# Altium footprint library QFN50P300X300X80-17N(qfn16).PcbLib: 1 footprints
Each footprint in its own frame and in the unit in brackets; x right, y up, seen from the top. Pads: shape width x height; smd on the part's side, far side on the other; paste and mask are expansions set on the pad; w line width, h text height; cw(c..) or ccw(c..) is an arc to the next point about the centre after c.
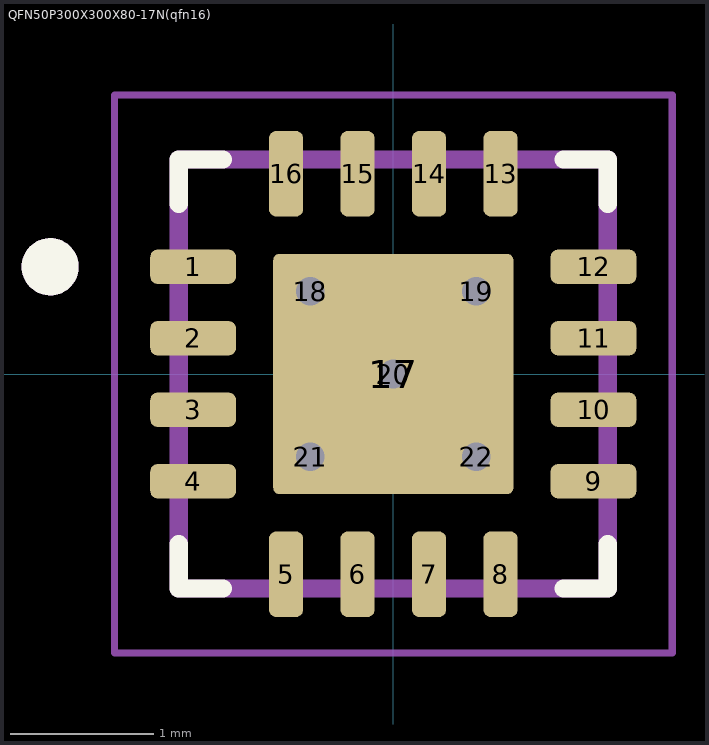
[diagram p0: the footprint, top view; thin cyan lines are the x and y axes]

## QFN50P300X300X80-17N(qfn16) [mm]
pads (22):
  rrect43% 0.6x0.24 smd: 1(-1.4,0.75) 2(-1.4,0.25) 3(-1.4,-0.25) 4(-1.4,-0.75) 9(1.4,-0.75) 10(1.4,-0.25) 11(1.4,0.25) 12(1.4,0.75)
  rrect43% 0.24x0.6 smd: 5(-0.75,-1.4) 6(-0.25,-1.4) 7(0.25,-1.4) 8(0.75,-1.4) 13(0.75,1.4) 14(0.25,1.4) 15(-0.25,1.4) 16(-0.75,1.4)
  rrect5% 1.68x1.68 smd paste-2: 17(0,0)
  round 0.3 hole 0.2 mask+0: 18(-0.58,0.58) 19(0.58,0.58) 20(0,0) 21(-0.58,-0.58) 22(0.58,-0.58)
Top Overlay:
  circle w0.2: c-2.4,0.75 r0.1
  lines w0.127: -1.5,-1.19 -1.5,-1.5 -1.19,-1.5 ; -1.5,1.19 -1.5,1.5 -1.19,1.5 ; 1.19,-1.5 1.5,-1.5 1.5,-1.19 ; 1.19,1.5 1.5,1.5 1.5,1.19
Top Paste:
  region: 0.733,0.774 0.735,0.774 0.738,0.773 0.74,0.773 0.743,0.772 0.745,0.771 0.748,0.77 0.75,0.768 0.752,0.767 0.754,0.765 0.756,0.764 0.758,0.762 0.76,0.76 0.762,0.758 0.764,0.756 0.765,0.754 0.767,0.752 0.768,0.75 0.77,0.748 0.771,0.745 0.772,0.743 0.773,0.74 0.773,0.738 0.774,0.735 0.774,0.733 0.775,0.73 0.775,0.728 0.775,0.725 0.775,-0.725 0.775,-0.728 0.775,-0.73 0.774,-0.733 0.774,-0.735 0.773,-0.738 0.773,-0.74 0.772,-0.743 0.771,-0.745 0.77,-0.748 0.768,-0.75 0.767,-0.752 0.765,-0.754 0.764,-0.756 0.762,-0.758 0.76,-0.76 0.758,-0.762 0.756,-0.764 0.754,-0.765 0.752,-0.767 0.75,-0.768 0.748,-0.77 0.745,-0.771 0.743,-0.772 0.74,-0.773 0.738,-0.773 0.735,-0.774 0.733,-0.774 0.73,-0.775 -0.73,-0.775 -0.733,-0.774 -0.735,-0.774 -0.738,-0.773 -0.74,-0.773 -0.743,-0.772 -0.745,-0.771 -0.748,-0.77 -0.75,-0.768 -0.752,-0.767 -0.754,-0.765 -0.756,-0.764 -0.758,-0.762 -0.76,-0.76 -0.762,-0.758 -0.764,-0.756 -0.765,-0.754 -0.767,-0.752 -0.768,-0.75 -0.77,-0.748 -0.771,-0.745 -0.772,-0.743 -0.773,-0.74 -0.773,-0.738 -0.774,-0.735 -0.774,-0.733 -0.775,-0.73 -0.775,-0.728 -0.775,-0.725 -0.775,0.725 -0.775,0.728 -0.775,0.73 -0.774,0.733 -0.774,0.735 -0.773,0.738 -0.773,0.74 -0.772,0.743 -0.771,0.745 -0.77,0.748 -0.768,0.75 -0.767,0.752 -0.765,0.754 -0.764,0.756 -0.762,0.758 -0.76,0.76 -0.758,0.762 -0.756,0.764 -0.754,0.765 -0.752,0.767 -0.75,0.768 -0.748,0.77 -0.745,0.771 -0.743,0.772 -0.74,0.773 -0.738,0.773 -0.735,0.774 -0.733,0.774 -0.73,0.775 0.73,0.775
Assembly Top:
  circle w0.2: c-2.4,0.75 r0.1
  lines w0.127: -1.5,-1.5 1.5,-1.5 1.5,1.5 -1.5,1.5 -1.5,-1.5
Top Courtyard:
  lines w0.05: -1.95,-1.95 -1.95,1.95 1.95,1.95 1.95,-1.95 -1.95,-1.95
3D body "step_temp.STEP": height 0.8, standoff 0, extent -1.5,-1.5 1.5,1.5